# EAGLE library part ST95P08M (library st-microelectronics)
Serial EEPROM SPI bus, 1 K x 8
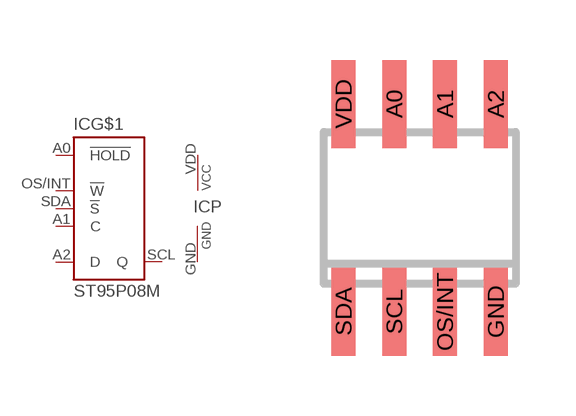
[diagram p9: symbol with the pads of SO08; footprint SO08]

Designator prefix IC; gates G$1=ST95P08 P=PWRN

## ST95P08M (OC_FARNELL: unknown; OC_NEWARK: unknown)  [SO08]
A0  G$1:!HOLD  in
A1  G$1:C  in
A2  G$1:D  in
GND  P:GND  pwr
OS/INT  G$1:!W  in
SCL  G$1:Q  hiz
SDA  G$1:!S  in
VDD  P:VCC  pwr

## Footprint SO08 (pad centres in mm)
SMALL OUTLINE INTEGRATED CIRCUIT body 3.9 mm/JEDEC MS-012AA
smd 0.6 x 2.2: A0 -0.635,2.6; A1 0.635,2.6; A2 1.905,2.6; GND 1.905,-2.6; OS/INT 0.635,-2.6; SCL -0.635,-2.6; SDA -1.905,-2.6; VDD -1.905,2.6